# EAGLE library part TFA9890AUK (library MOTO_LIB)
Audio Power amplifier
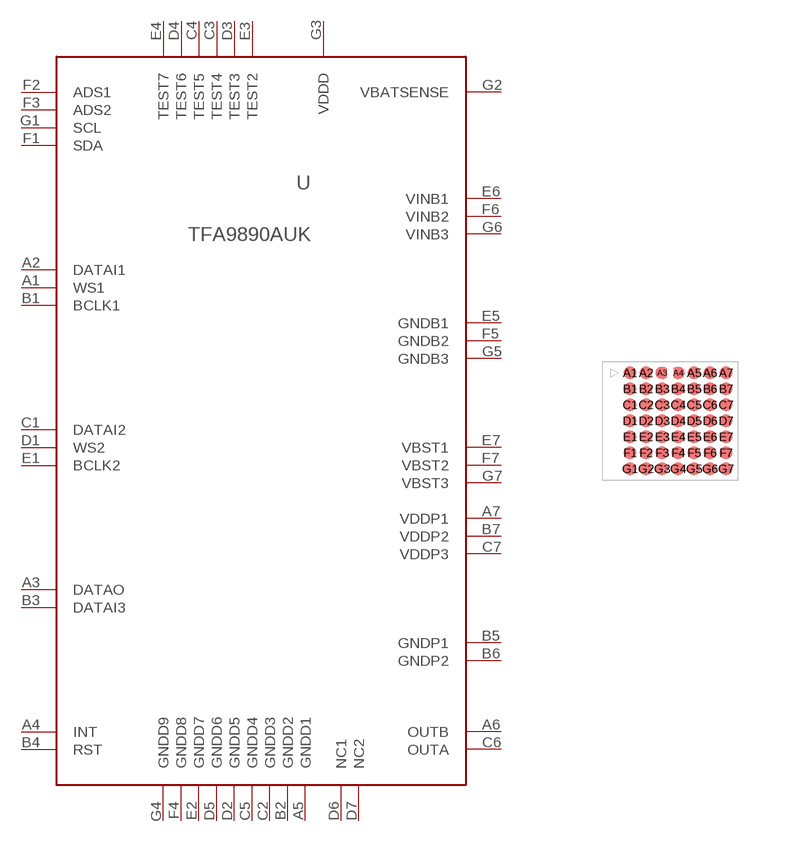
[diagram p13: symbol with the pads of BGA7X7; footprint BGA7X7]

Designator prefix U

## TFA9890AUK (MPN: TFA9890AUK; SUPPLIER: NXP)  [BGA7X7]
A1  WS1
A2  DATAI1
A3  DATAO
A4  INT
A5  GNDD1
A6  OUTB
A7  VDDP1
B1  BCLK1
B2  GNDD2
B3  DATAI3
B4  RST
B5  GNDP1
B6  GNDP2
B7  VDDP2
C1  DATAI2
C2  GNDD3
C3  TEST4
C4  TEST5
C5  GNDD4
C6  OUTA
C7  VDDP3
D1  WS2
D2  GNDD5
D3  TEST3
D4  TEST6
D5  GNDD6
D6  NC1
D7  NC2
E1  BCLK2
E2  GNDD7
E3  TEST2
E4  TEST7
E5  GNDB1
E6  VINB1
E7  VBST1
F1  SDA
F2  ADS1
F3  ADS2
F4  GNDD8
F5  GNDB2
F6  VINB2
F7  VBST2
G1  SCL
G2  VBATSENSE
G3  VDDD
G4  GNDD9
G5  GNDB3
G6  VINB3
G7  VBST3

## Footprint BGA7X7 (pad centres in mm)
smd 0.32 x 0.32: A1 -1,1.2; A2 -0.6,1.2; A5 0.6,1.2; A6 1,1.2; A7 1.4,1.2; B1 -1,0.8; B2 -0.6,0.8; B3 -0.2,0.8; B4 0.2,0.8; B5 0.6,0.8; B6 1,0.8; B7 1.4,0.8; C1 -1,0.4; C2 -0.6,0.4; C3 -0.2,0.4; C4 0.2,0.4; C5 0.6,0.4; C6 1,0.4; C7 1.4,0.4; D1 -1,0; D2 -0.6,0; D3 -0.2,0; D4 0.2,0; D5 0.6,0; D6 1,0; D7 1.4,0; E1 -1,-0.4; E2 -0.6,-0.4; E3 -0.2,-0.4; E4 0.2,-0.4; E5 0.6,-0.4; E6 1,-0.4; E7 1.4,-0.4; F1 -1,-0.8; F2 -0.6,-0.8; F3 -0.2,-0.8; F4 0.2,-0.8; F5 0.6,-0.8; F6 1,-0.8; F7 1.4,-0.8; G1 -1,-1.2; G2 -0.6,-1.2; G3 -0.2,-1.2; G4 0.2,-1.2; G5 0.6,-1.2; G6 1,-1.2; G7 1.4,-1.2
smd 0.22 x 0.22: A3 -0.2,1.2; A4 0.2,1.2